# EAGLE library part SD-CARD-ADAPTER (library SchlapphutProjektLib)
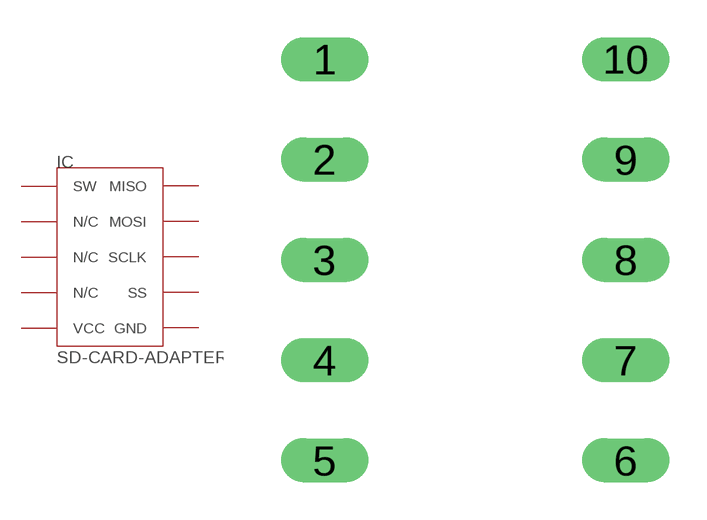
[diagram p0: symbol with the pads of SD-CARD-ADAPTER; footprint SD-CARD-ADAPTER]

Designator prefix IC

## SD-CARD-ADAPTER  [SD-CARD-ADAPTER]
1  SW
2  N/C
3  N/C  nc
4  N/C
5  VCC
6  GND
7  SS
8  SCLK
9  MOSI
10  MISO

## Footprint SD-CARD-ADAPTER (pad centres in mm)
drill 0.6 long: 1 -6.35,5.08; 2 -6.35,2.54; 3 -6.35,0; 4 -6.35,-2.54; 5 -6.35,-5.08; 6 1.27,-5.08; 7 1.27,-2.54; 8 1.27,0; 9 1.27,2.54; 10 1.27,5.08